# EAGLE library part AD5611BKSZ (library AD5611BKSZ)
IC,2.7 V to 5.5 V, <100 mA, 8-/10-/12-Bit nanoDAC, SPI Interface in LFCSP and SC70- SC70-6
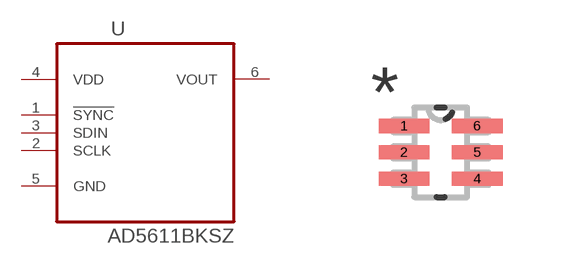
[diagram p0: symbol with the pads of SOT65P210X110-6N; footprint SOT65P210X110-6N]

Designator prefix U

## AD5611BKSZ (MPN: AD5611BKSZ; OC_FARNELL: 2096189; OC_NEWARK: 91T4795; PACKAGE: SC-70-6; SUPPLIER: Analog Devices)  [SOT65P210X110-6N]
1  !SYNC  in
2  SCLK  in
3  SDIN  in
4  VDD  pwr
5  GND  pas
6  VOUT  out

## Footprint SOT65P210X110-6N (pad centres in mm)
smd 1.27 x 0.356: 1 -0.914,0.66; 2 -0.914,0; 3 -0.914,-0.66; 4 0.914,-0.66; 5 0.914,0; 6 0.914,0.66